# Altium schematic symbol library LimeMicroAltiumLib_schLib.SchLib: 199 symbols (part 8 of 8)
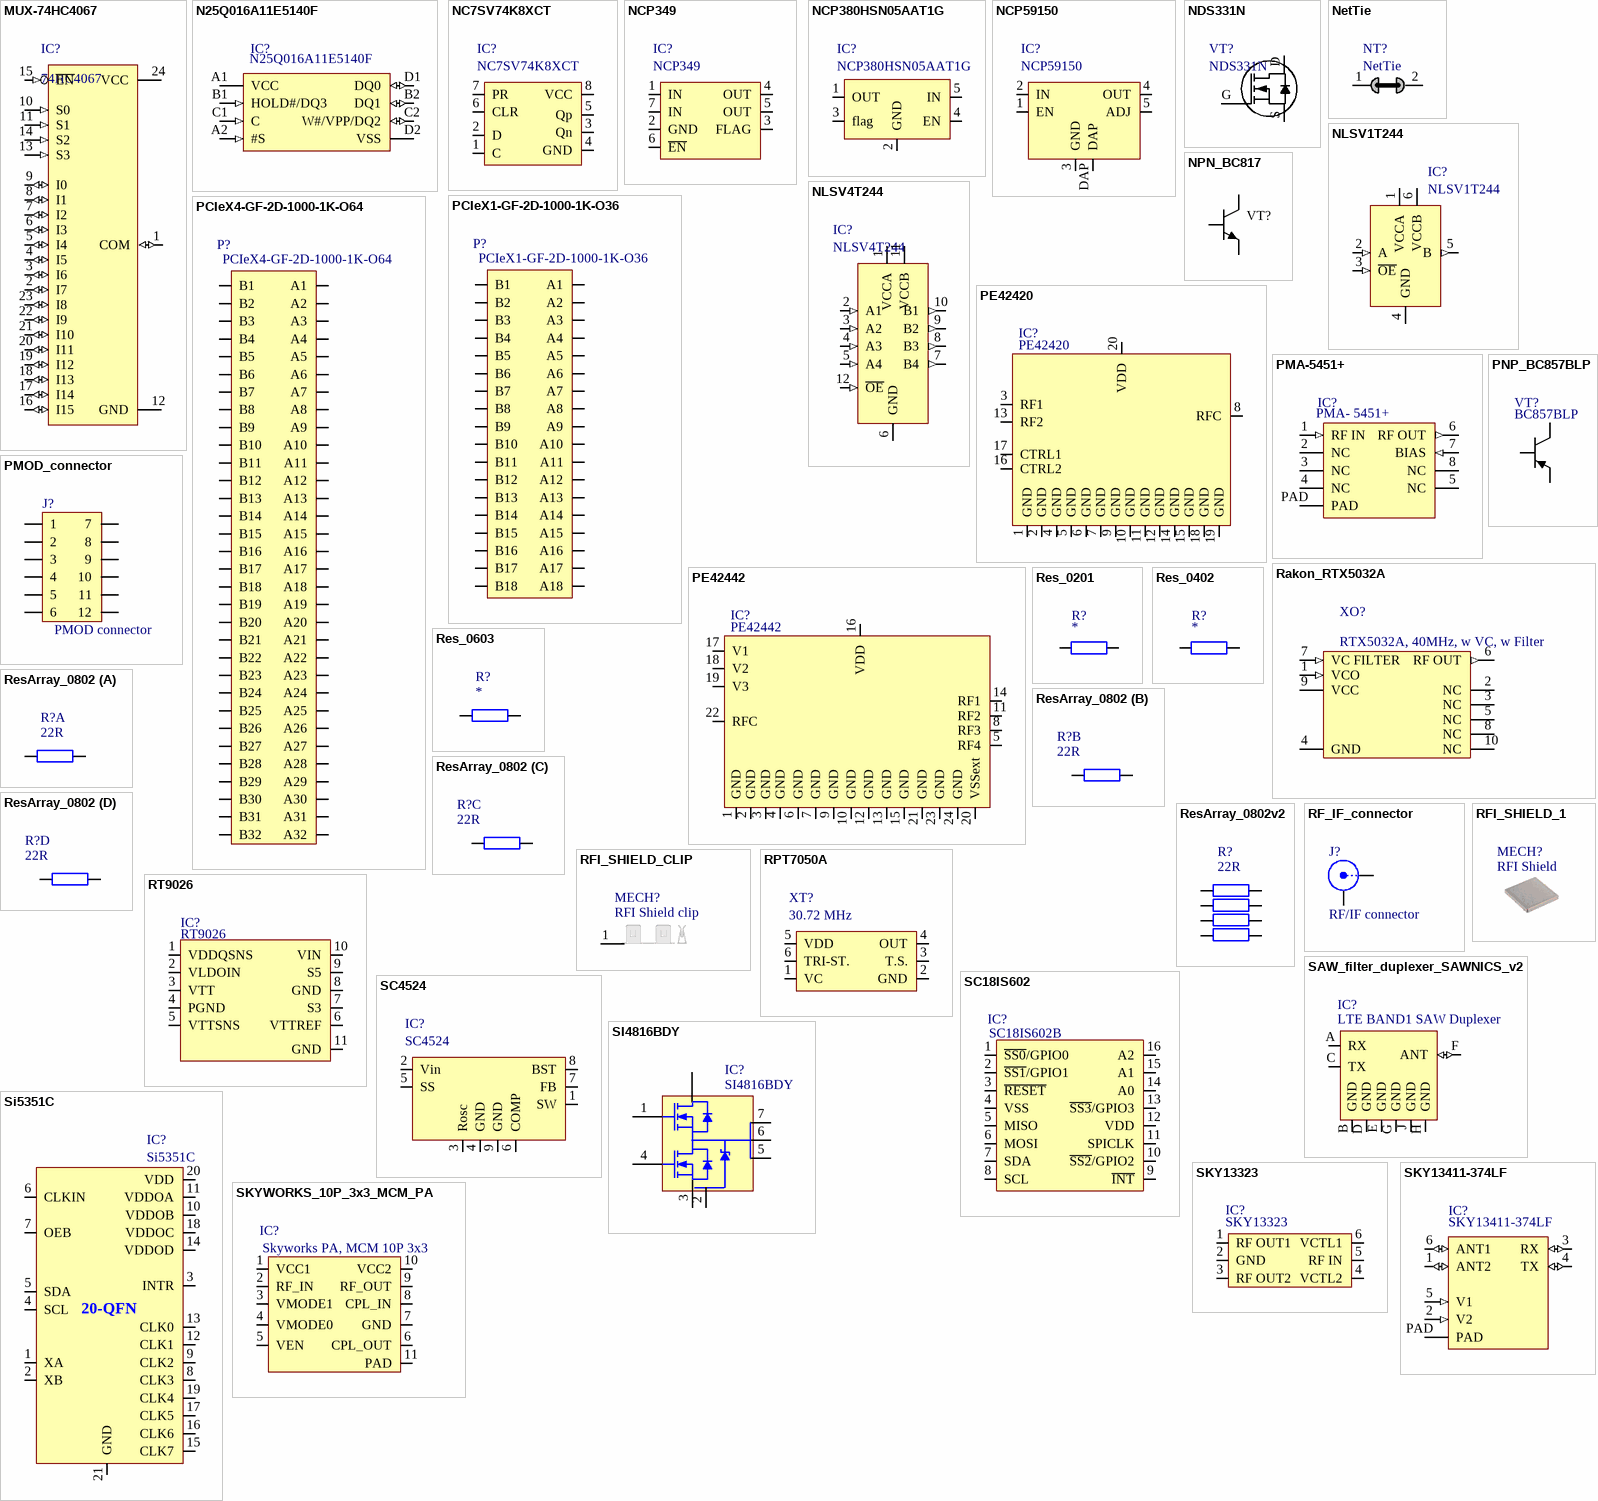
[diagram p41: symbols MUX-74HC4067 to SKYWORKS_10P_3x3_MCM_PA]

## SKYWORKS_10P_3x3_MCM_PA
designator IC?, comment Skyworks PA, MCM 10P 3x3
footprint SKYWORKS_10PIN_MCM_3x3
pins: 1 VCC1 (power), 2 RF_IN (in), 3 VMODE1 (in), 4 VMODE0 (in), 5 VEN (in), 6 CPL_OUT (out), 7 GND, 8 CPL_IN (in), 9 RF_OUT (out), 10 VCC2 (power), 11 PAD

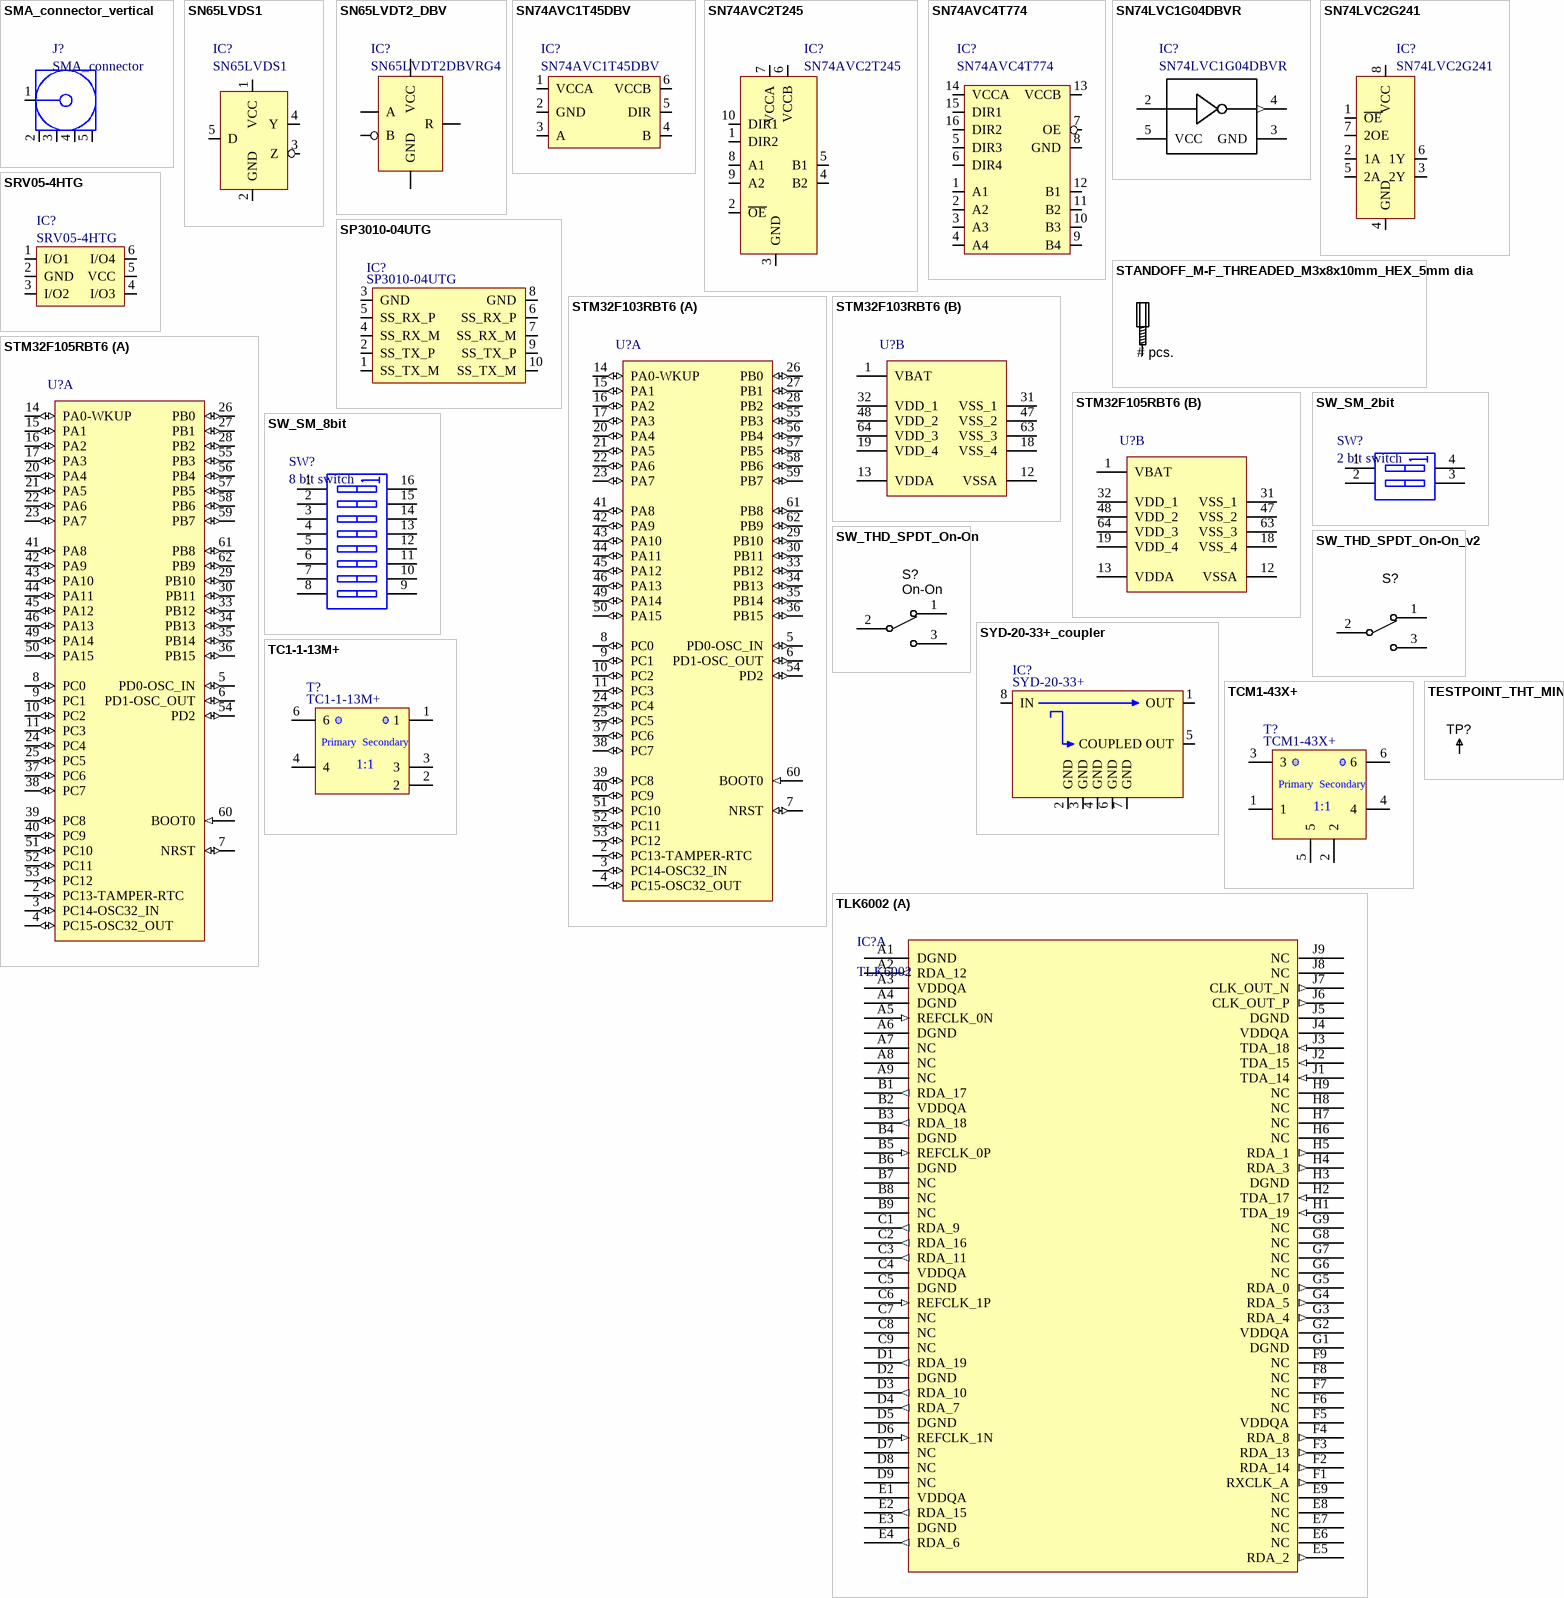
[diagram p32: symbols SMA_connector_vertical to TLK6002]

## SMA_connector_vertical
designator J?, comment SMA_connector
Supplier 1: Farnell; Supplier Part Number 1: 1206013
footprint SMA_connector_vertical
pins: 1 RF, 2 GND, 3 GND, 4 GND, 5 GND

## SN65LVDS1
designator IC?
Manufacturer: TEXAS INSTRUMENTS; Manufacturer Part Number 1: SN65LVDS1DBVR; Supply Voltage Min: 2.4; Supply Voltage Max: 3.6; No. of Pins: 5; Driver Case Style: SOT-23; Supplier 1: Newark; Supplier Part Number 1: 76C0715
footprint SOT23-5
pins: 1 VCC, 2 GND, 3 Z, 4 Y, 5 D

## SN65LVDT2_DBV
designator IC?, comment SN65LVDT2DBVRG4
Manufacturer: Texas Instruments; Voltage - Supply: 2.4 V ~ 3.6 V; Number of Drivers/Receivers: 0/1; Data Rate: 400Mbps; Protocol: LVDS; Supplier 1: Digi-Key; Category: Integrated Circuits (ICs); Type: Receiver; Manufacturer Part Number 1: SN65LVDT2DBVRG4; Packaging: Tape & Reel (TR); RoHS: RoHS Compliant; Supplier Device Package: SOT-23-5; Package / Case: SC-74A, SOT-753; Mounting Type: Surface Mount; Operating Temperature: -40°C ~ 85°C; Receiver Hysteresis: -; Duplex: -; Supplier Part Number 1: SN65LVDT2DBVRG4-ND
footprint SOT23-5
pins: 1 VCC, 2 GND, 3 A, 4 B, 5 R

## SN74AVC1T45DBV
designator IC?
Manufacturer: Texas Instruments; Data Rate: 500Mbps; Voltage - Supply: 1.2 V ~ 3.6 V; Supplier 1: Digi-Key; Category: Integrated Circuits (ICs); Package / Case: SOT-23-6; Supplier Part Number: 296-19094-1-ND
footprint SOT23-6
pins: 1 VCCA (power), 2 GND, 3 A (io), 4 B (io), 5 DIR (in), 6 VCCB (power)

## SN74AVC2T245
designator IC?
Input Type: Logic; Logic Function: Translator, Bidirectional, 3-State; Data Rate: 500Mbps; Propagation Delay (Max): 2.4ns; Voltage - Supply: 1.2 V ~ 3.6 V; Supplier 1: Digi-Key; Category: Integrated Circuits (ICs); Supplier Device Package: 10-UQFN (1.8x1.4); Package / Case: 10-UFQFN; Supplier Part Number: 296-23684-1-ND
footprint SN74AVC2T245RSWR (PQFN, 10-Leads, Body 1,80x1,40mm, Pitch 0,40mm, IPC Medium Density)
pins: 1 DIR2, 2 ~{OE}, 3 GND, 4 B2, 5 B1, 6 VCCB, 7 VCCA, 8 A1, 9 A2, 10 DIR1

## SN74AVC4T774
designator IC?
Manufacturer: Texas Instruments; Manufacturer Part Number 1: SN74AVC4T774RSVR; Logic Function: Translator, Bidirectional, 3-State; Differential - Input:Output: No/No; Propagation Delay (Max): 2.4ns; Number of Bits: 4; Number of Outputs/Channel: 1; Input Type: Logic; Voltage - Supply: 1.2 V ~ 3.6 V; Data Rate: 380Mbps; Supplier 1: Digi-Key; Supplier Device Package: 16-UQFN (2.6x1.8); Packaging: Digi-Reel®; Category: Integrated Circuits (ICs); Mounting Type: Surface Mount; RoHS: RoHS Compliant; Number of Channels: 4; Output Type: Logic; Package / Case: 16-UFQFN; Operating Temperature: -40°C ~ 85°C; Supplier Part Number 1: 296-24741-6-ND
footprint SN74AVC4T774 (PQFN, 16-Leads, Body 2,60x1,80mm, Pitch 0,40mm, IPC Medium Density)
pins: 1 A1, 2 A2, 3 A3, 4 A4, 5 DIR3, 6 DIR4, 7 OE, 8 GND, 9 B4, 10 B3, 11 B2, 12 B1, 13 VCCB, 14 VCCA, 15 DIR1, 16 DIR2

## SN74LVC1G04DBVR
designator IC?
Manufacturer: Texas Instruments; Number of Inputs: 1; Voltage - Supply: 1.65 V ~ 5.5 V; Current - Quiescent (Max): 10µA; Current - Output High, Low: 32mA, 32mA; Max Propagation Delay @ V, Max CL: 3.7ns @ 5V, 50pF; Logic Level - High: 1.7 V ~ 2 V; Logic Level - Low: 0.7 V ~ 0.8 V; Logic Type: Inverter; Supplier 1: Digi-Key; RoHS: RoHS Compliant; Number of Circuits: 1; Mounting Type: Surface Mount; Supplier Device Package: SOT-23-5; Manufacturer Part Number 1: SN74LVC1G04DBVR; Operating Temperature: -40°C ~ 125°C; Packaging: Digi-Reel®; Features: -; Package / Case: SC-74A, SOT-753; Category: Integrated Circuits (ICs); Supplier Part Number 1: 296-11599-6-ND
footprint SOT23-5
pins: 2 A, 3 GND (power), 4 Y (out), 5 VCC (power)

## SN74LVC2G241
designator IC?
Logic Type: Buffer/Line Driver, Non-Inverting; Current - Output High, Low: 32mA, 32mA; Voltage - Supply: 1.65 V ~ 5.5 V; Supplier 1: Digi-Key; Package / Case: 8-LSSOP (0.11", 2.80mm Width); Category: Integrated Circuits (ICs); Mounting Type: Surface Mount; Supplier Part Number: 296-11935-1-ND
footprint SN74LVC2G241 (TSOP, 8-Leads, Body 2,95x2,80mm, Pitch 0,65mm, IPC Medium Density)
pins: 1 ~{OE}, 2 1A, 3 2Y, 4 GND, 5 2A, 6 1Y, 7 2OE, 8 VCC

## SP3010-04UTG
designator IC?
Manufacturer: Littelfuse Inc; Supplier 1: Digi-Key; Supplier: Digi-Key; Category: Circuit Protection; Supplier Device Package: 10-µDFN (2.5x1.0); Supplier Part Number: F3507TR-ND
pins: 1 SS_TX_M, 2 SS_TX_P, 3 GND, 4 SS_RX_M, 5 SS_RX_P, 6 SS_RX_P, 7 SS_RX_M, 8 GND, 9 SS_TX_P, 10 SS_TX_M

## SRV05-4HTG
designator IC?
Manufacturer: Littelfuse Inc; Voltage - Reverse Standoff (Typ): 6V (Max); Voltage - Clamping (Max) @ Ipp: 15V; Current - Peak Pulse (10/1000µs): 10A (8/20µs); Supplier 1: Digi-Key; Category: Circuit Protection; Package / Case: SOT-23-6; Supplier Part Number 1: F4204TR-ND
footprint SOT23-6
pins: 1 I/O1, 2 GND, 3 I/O2, 4 I/O3, 5 VCC, 6 I/O4

## STANDOFF_M-F_THREADED_M3x8x10mm_HEX_5mm dia
designator MECH?, comment # pcs.
STANDOFF M/F MET 5MM HEX 10MM L; Manufacturer 1: Keystone Electronics; Manufacturer Part Number 1: 24313; Thread/Screw/Hole Size: M3 Thread; Plating: Nickel; Between Board Height: 0.394" (10.0mm); SCDType: undef; RoHS: RoHS Compliant; Description 1: STANDOFF M/F MET 5MM HEX 10MM L; Category: Hardware Fasteners Accessories; Stock 1: 240; Pricing 1: 10=0.969, 100=0.881, 500=0.58, 1000=0.3685, 2500=0.34215 (USD); Type: Hex Threaded, Male/Female; Size: 0.197" (5.0mm) Hex; Length - Overall: 0.709" (18.0mm); Material: Brass; Color: Natural; ComponentLink1URL: http://www.keyelco.com/pdfs/M55p67.pdf; ComponentLink1Description: http://www.keyelco.com/pdfs/M55p67.pdf; Supplier 1: Digi-Key; Supplier Part Number 1: 24313K-ND
footprint PCB_standoff
pins: MH1

## STM32F103RBT6
designator U?
ARM Cortex-M3 32-bit MCU, 128 KB Flash, 20 KB Internal RAM, 51 I/Os, 64-pin LQFP, -40 to 85 degC, Tray; PartNumber: STM32F103RBT6; A/D Converter: 2x12-bit (16 Channel); FLASH Size (Prog) (kB): 128; I/Os (High Current): 51; Internal RAM Size (kB): 20; Operating Frequency(F) (Processor speed) (MHz): 72; Supply Voltage(Vcc) min (V): 2; DatasheetVersion: Rev. 16; PackageVersion: Rev. 4, 06/2013; PackageReference: LQFP64; PackageDescription: 64-Pin Low Profile Quad Flat Package, 10 x 10 mm Body, 0.5 mm Pitch; Supplier 1: Digi-Key; Supplier Part Number 1: 497-6066-ND; Supplier 2: Farnell; Supplier Part Number 2: 1447640; Supplier 3: Newark; Supplier Part Number 3: 59M2183; Supplier 4: Newark; Supplier Part Number 4: 57P1224; Supplier 5: Mouser; Supplier Part Number 5: 511-STM32F103RBT6; Core: ARM Cortex-M3; Packing: Tray; Mounting Technology: Surface Mount; ComponentLink1Description: Manufacturer URL; ComponentLink1URL: http://www.st.com/web/en/home.html; ComponentLink2Description: Datasheet; ComponentLink2URL: http://www.st.com/st-web-ui/static/active/en/resource/technical/document/datasheet/CD00161566.pdf; ComponentLink3Description: Package Specification; ComponentLink3URL: http://www.st.com/st-web-ui/static/active/en/resource/technical/document/datasheet/DM00037051.pdf
footprint STM-LQFP64_N (Thin QFP, 64-Leads, Body 10x10mm, Pitch 0.5mm, IPC Medium Density)
part A pins: 2 PC13-TAMPER-RTC (io) "PC13-TAMPER-RTC/PC13/TAMPER-RTC", 3 PC14-OSC32_IN (io) "PC14-OSC32_IN/PC14/OSC32_IN", 4 PC15-OSC32_OUT (io) "PC15-OSC32_OUT/PC15/OSC32_OUT", 5 PD0-OSC_IN (io) "PD0/OSC_IN", 6 PD1-OSC_OUT (io) "PD1/OSC_OUT", 7 NRST (io), 8 PC0 (io) "PC0/ADC12_IN10", 9 PC1 (io) "PC1/ADC12_IN11", 10 PC2 (io) "PC2/ADC12_IN12", 11 PC3 (io) "PC3/ADC12_IN13", 14 PA0-WKUP (io) "PA0-WKUP/PA0/WKUP/USART2_CTS/ADC12_IN0/TIM2_CH1_ETR", 15 PA1 (io) "PA1/USART2_RTS/ADC12_IN1/TIM2_CH2", 16 PA2 (io) "PA2/USART2_TX/ADC12_IN2/TIM2_CH3", 17 PA3 (io) "PA3/USART2_RX/ADC12_IN3/TIM2_CH4", 20 PA4 (io) "PA4/SPI1_NSS/USART2_CK/ADC12_IN4", 21 PA5 (io) "PA5/SPI1_SCK/ADC12_IN5", 22 PA6 (io) "PA6/SPI1_MISO/ADC12_IN6/TIM3_CH1/TIM1_BKIN", 23 PA7 (io) "PA7/SPI1_MOSI/ADC12_IN7/TIM3_CH2/TIM1_CH1N", 24 PC4 (io) "PC4/ADC12_IN14", 25 PC5 (io) "PC5/ADC12_IN15", 26 PB0 (io) "PB0/ADC12_IN8/TIM3_CH3/TIM1_CH2N", 27 PB1 (io) "PB1/ADC12_IN9/TIM3_CH4/TIM1_CH3N", 28 PB2 (io) "PB2/BOOT1", 29 PB10 (io) "PB10/I2C2_SCL/USART3_TX/TIM2_CH3", 30 PB11 (io) "PB11/I2C2_SDA/USART3_RX/TIM2_CH4", 33 PB12 (io) "PB12/SPI2_NSS/I2C2_SMBAl/USART3_CK/TIM1_BKIN", 34 PB13 (io) "PB13/SPI2_SCK/USART3_CTS/TIM1_CH1N", 35 PB14 (io) "PB14/SPI2_MISO/USART3_RTS/TIM1_CH2N", 36 PB15 (io) "PB15/SPI2_MOSI/TIM1_CH3N", 37 PC6 (io) "PC6/TIM3_CH1", 38 PC7 (io) "PC7/TIM3_CH2", 39 PC8 (io) "PC8/TIM3_CH3", 40 PC9 (io) "PC9/TIM3_CH4", 41 PA8 (io) "PA8/USART1_CK/TIM1_CH1/MCO", 42 PA9 (io) "PA9/USART1_TX/TIM1_CH2", 43 PA10 (io) "PA10/USART1_RX/TIM1_CH3", 44 PA11 (io) "PA11/USART1_CTS/CANRX/USBDM/TIM1_CH4", 45 PA12 (io) "PA12/USART1_RTS/CANTX/USBDP/TIM1_ETR", 46 PA13 (io) "PA13/JTMS/SWDIO", 49 PA14 (io) "PA14/JTCK/SWCLK", 50 PA15 (io) "PA15/JTDI/TIM2_CH1_ETR/SPI1_NSS", 51 PC10 (io) "PC10/USART3_TX", 52 PC11 (io) "PC11/USART3_RX", 53 PC12 (io) "PC12/USART3_CK", 54 PD2 (io) "PD2/TIM3_ETR", 55 PB3 (io) "PB3/JTDO/TIM2_CH2/TRACESWO/SPI1_SCK", 56 PB4 (io) "PB4/NJTRST/TIM3_CH1/SPI1_MISO", 57 PB5 (io) "PB5/I2C1_SMBAI/TIM3_CH2/SPI1_MOSI", 58 PB6 (io) "PB6/I2C1_SCL/TIM4_CH1/USART1_TX", 59 PB7 (io) "PB7/I2C1_SDA/TIM4_CH2/USART1_RX", 60 BOOT0 (in), 61 PB8 (io) "PB8/TIM4_CH3/I2C1_SCL/CANRX", 62 PB9 (io) "PB9/TIM4_CH4/I2C1_SDA/CANTX"
part B pins: 1 VBAT (power), 12 VSSA (power), 13 VDDA (power), 18 VSS_4 (power), 19 VDD_4 (power), 31 VSS_1 (power), 32 VDD_1 (power), 47 VSS_2 (power), 48 VDD_2 (power), 63 VSS_3 (power), 64 VDD_3 (power)

## STM32F105RBT6
designator U?
ARM Cortex-M3 32-bit MCU, 128 KB Flash, 64 KB Internal RAM, 51 I/Os, 64-pin LQFP, -40 to 85 degC, Tray; PartNumber: STM32F105RBT6; A/D Converter: 2x12-bit (16 Channel); D/A Converter: 2x12-bit (2 Channel); FLASH Size (Prog) (kB): 128; I/Os (High Current): 51; Internal RAM Size (kB): 64; Operating Frequency(F) (Processor speed) (MHz): 72; Supply Voltage(Vcc) min (V): 2; DatasheetVersion: Rev. 6; PackageVersion: Rev. 4, 06/2013; PackageReference: LQFP64; PackageDescription: 64-Pin Low Profile Quad Flat Package, 10 x 10 mm Body, 0.5 mm Pitch; Supplier 1: Digi-Key; Supplier Part Number 1: 497-8920-ND; Supplier 2: Farnell; Supplier Part Number 2: 1737133; Supplier 3: Newark; Supplier Part Number 3: 52R2326; Supplier 4: Newark; Supplier Part Number 4: 25R9437; Supplier 5: Mouser; Supplier Part Number 5: 511-STM32F105RBT6; Core: ARM Cortex-M3; Packing: Tray; Mounting Technology: Surface Mount; ComponentLink1Description: Manufacturer URL; ComponentLink1URL: http://www.st.com/web/en/home.html; ComponentLink2Description: Datasheet; ComponentLink2URL: http://www.st.com/st-web-ui/static/active/en/resource/technical/document/datasheet/CD00220364.pdf; ComponentLink3Description: Package Specification; ComponentLink3URL: http://www.st.com/st-web-ui/static/active/en/resource/technical/document/datasheet/DM00037051.pdf
footprint STM-LQFP64_N (Thin QFP, 64-Leads, Body 10x10mm, Pitch 0.5mm, IPC Medium Density)
part A pins: 2 PC13-TAMPER-RTC (io) "PC13-TAMPER-RTC/PC13/TAMPER-RTC", 3 PC14-OSC32_IN (io) "PC14-OSC32_IN/PC14/OSC32_IN", 4 PC15-OSC32_OUT (io) "PC15-OSC32_OUT/PC15/OSC32_OUT", 5 PD0-OSC_IN (io) "PD0/OSC_IN", 6 PD1-OSC_OUT (io) "PD1/OSC_OUT", 7 NRST (io), 8 PC0 (io) "PC0/ADC12_IN10", 9 PC1 (io) "PC1/ADC12_IN11/ETH_MII_MDC/ETH_RMII_MDC", 10 PC2 (io) "PC2/ADC12_IN12/ETH_MII_TXD2", 11 PC3 (io) "PC3/ADC12_IN13/ETH_MII_TX_CLK", 14 PA0-WKUP (io) "PA0-WKUP/PA0/WKUP/USART2_CTS/ADC12_IN0/TIM2_CH1_ETR/TIM5_CH1/ETH_MII_CRS_WKUP", 15 PA1 (io) "PA1/USART2_RTS/ADC12_IN1/TIM5_CH2/TIM2_CH2/ETH_MII_RX_CLK/ETH_RMII_REF_CLK", 16 PA2 (io) "PA2/USART2_TX/TIM5_CH3/ADC12_IN2/TIM2_CH3/ETH_MII_MDIO/ETH_RMII_MDIO", 17 PA3 (io) "PA3/USART2_RX/TIM5_CH4/ADC12_IN3/TIM2_CH4/ETH_MII_COL", 20 PA4 (io) "PA4/SPI1_NSS/DAC_OUT1/USART2_CK/ADC12_IN4/SPI3_NSS/I2S3_WS", 21 PA5 (io) "PA5/SPI1_SCK/DAC_OUT2/ADC12_IN5", 22 PA6 (io) "PA6/SPI1_MISO/ADC12_IN6/TIM3_CH1/TIM1_BKIN", 23 PA7 (io) "PA7/SPI1_MOSI/ADC12_IN7/TIM3_CH2/ETH_MII_RX_DV/ETH_RMII_CRS_DV/TIM1_CH1N", 24 PC4 (io) "PC4/ADC12_IN14/ETH_MII_RXD0/ETH_RMII_RXD0", 25 PC5 (io) "PC5/ADC12_IN15/ETH_MII_RXD1/ETH_RMII_RXD1", 26 PB0 (io) "PB0/ADC12_IN8/TIM3_CH3/ETH_MII_RXD2/TIM1_CH2N", 27 PB1 (io) "PB1/ADC12_IN9/TIM3_CH4/ETH_MII_RXD3/TIM1_CH3N", 28 PB2 (io) "PB2/BOOT1", 29 PB10 (io) "PB10/I2C2_SCL/USART3_TX/ETH_MII_RX_ER/TIM2_CH3", 30 PB11 (io) "PB11/I2C2_SDA/USART3_RX/ETH_MII_TX_EN/ETH_RMII_TX_EN/TIM2_CH4", 33 PB12 (io) "PB12/SPI2_NSS/I2S2_WS/I2C2_SMBA/USART3_CK/TIM1_BKIN/CAN2_RX/ETH_MII_TXD0/ETH_RMII_TXD0", 34 PB13 (io) "PB13/SPI2_SCK/I2S2_CK/USART3_CTS/TIM1_CH1N/CAN2_TX/ETH_MII_TXD1/ETH_RMII_TXD1", 35 PB14 (io) "PB14/SPI2_MISO/TIM1_CH2N/USART3_RTS", 36 PB15 (io) "PB15/SPI2_MOSI/I2S2_SD/TIM1_CH3N", 37 PC6 (io) "PC6/I2S2_MCK/TIM3_CH1", 38 PC7 (io) "PC7/I2S3_MCK/TIM3_CH2", 39 PC8 (io) "PC8/TIM3_CH3", 40 PC9 (io) "PC9/TIM3_CH4", 41 PA8 (io) "PA8/USART1_CK/OTG_FS_SOF/TIM1_CH1/MCO", 42 PA9 (io) "PA9/USART1_TX/TIM1_CH2/OTG_FS_VBUS", 43 PA10 (io) "PA10/USART1_RX/TIM1_CH3/OTG_FS_ID", 44 PA11 (io) "PA11/USART1_CTS/CAN1_RX/TIM1_CH4/OTG_FS_DM", 45 PA12 (io) "PA12/USART1_RTS/OTG_FS_DP/CAN1_TX/TIM1_ETR", 46 PA13 (io) "PA13/JTMS-SWDIO", 49 PA14 (io) "PA14/JTCK-SWCLK", 50 PA15 (io) "PA15/JTDI/SPI3_NSS/I2S3_WS/TIM2_CH1_ETR/SPI1_NSS", 51 PC10 (io) "PC10/UART4_TX/USART3_TX/SPI3_SCK/I2S3_CK", 52 PC11 (io) "PC11/UART4_RX/USART3_RX/SPI3_MISO", 53 PC12 (io) "PC12/UART5_TX/USART3_CK/SPI3_MOSI/I2S3_SD", 54 PD2 (io) "PD2/TIM3_ETR/UART5_RX", 55 PB3 (io) "PB3/JTDO/SPI3_SCK/I2S3_CK/TRACESWO/TIM2_CH2/SPI1_SCK", 56 PB4 (io) "PB4/NJTRST/SPI3_MISO/TIM3_CH1/SPI1_MISO", 57 PB5 (io) "PB5/I2C1_SMBA/SPI3_MOSI/ETH_MII_PPS_OUT/I2S3_SD/ETH_RMII_PPS_OUT/TIM3_CH2/SPI1_MOSI/CAN2_RX", 58 PB6 (io) "PB6/I2C1_SCL/TIM4_CH1/USART1_TX/CAN2_TX", 59 PB7 (io) "PB7/I2C1_SDA/TIM4_CH2/USART1_RX", 60 BOOT0 (in), 61 PB8 (io) "PB8/TIM4_CH3/ETH_MII_TXD3/I2C1_SCL/CAN1_RX", 62 PB9 (io) "PB9/TIM4_CH4/I2C1_SDA/CAN1_TX"
part B pins: 1 VBAT (power), 12 VSSA (power), 13 VDDA (power), 18 VSS_4 (power), 19 VDD_4 (power), 31 VSS_1 (power), 32 VDD_1 (power), 47 VSS_2 (power), 48 VDD_2 (power), 63 VSS_3 (power), 64 VDD_3 (power)

## SW_SM_2bit
designator SW?, comment 2 bit switch
Manufacturer: TE Connectivity Alcoswitch Switches; Manufacturer Part Number 1: 1571983-1; Circuit: SPST; Voltage Rating: 24VDC; Mechanical Life: 1,000 Cycles; Current Rating: 25mA; Actuator Level: Flush, Recessed; Pitch: 0.050" (1.27mm), Half; Actuator Type: Slide (Standard); Body Material: Polyphenylene Sulfide (PPS); Number of Positions: 2; Washable: Yes; Supplier 1: Digi-Key; Features: Tape Seal; Termination Style: Gull Wing; Category: Switches; Electrical Life: 1,000 Cycles; Length: 0.144" (3.67mm); Contact Finish: Gold; Packaging: Tube; Operating Temperature: -30°C ~ 85°C; RoHS: RoHS Compliant; Contact Material: Copper Alloy; Height Above Board: 0.091" (2.30mm); Mounting Type: Surface Mount; Supplier Part Number 1: 450-1431-ND
footprint SW_2WAY_SMD_1P27 (DIP Switch; 16 Leads, 1.27 pitch)
pins: 1 A1, 2 A2, 3 B2, 4 B1

## SW_SM_8bit
designator SW?, comment 8 bit switch
Manufacturer: Omron Electronics Inc-EMC Div; Manufacturer Part Number: A6H-8101; Actuator Level: Flush; Actuator Type: Standard; Circuit: SPST; Contact Rating @ Voltage: 0.025A @ 24VDC; Number of Positions: 8; Supplier 1: Digi-Key; Mounting Type: Surface Mount; Category: Switches; Supplier Part Number 1: SW1118-ND
footprint SW_8WAY_SMD (DIP Switch; 16 Leads)
pins: 1 A1, 2 A2, 3 A3, 4 A4, 5 A5, 6 A6, 7 A7, 8 A8, 9 B8, 10 B7, 11 B6, 12 B5, 13 B4, 14 B3, 15 B2, 16 B1

## SW_THD_SPDT_On-On
designator S?, comment ON-ON
Switch THD vertical toggle SPDT; Manufacturer 1: TE Connectivity; Manufacturer Part Number 1: SLS121PC04; Contact Rating @ Voltage: 0.25A @ 125VAC; Circuit: SPDT; Mounting Type: PCB mount; Supplier 1: Digi-Key; Supplier Part Number 1: 450-1598-ND; Switch Function: On-On
footprint SWITCH_SPDT_SLIDER (TE Connectivity SLS121PC04 SPDT slider)
footprint SWITCH_SPDT_SLIDER (TE Connectivity SLS121PC04 SPDT slider)
pins: 1, 2, 3

## SW_THD_SPDT_On-On_v2
designator S?, comment ON-ON  (value not drawn)
Switch THD vertical toggle SPDT; Manufacturer Part Number: 1101M2S3CQE2; Manufacturer: C&K Components; Voltage Rating - AC: 120V; Actuator Length: 5.08mm; Current Rating: 6A (AC/DC); Electrical Life: 40,000 Cycles; Switch Travel: 2.16mm; Voltage Rating - DC: 28V; Supplier 1: Digi-Key; Termination Style: PC Pin; Operating Temperature: -30°C ~ 65°C; Category: Switches; Switch Function: On-On; Supplier Part Number 1: CKN5001-ND
footprint SWITCH_SPDT_SLIDER - duplicate (TE Connectivity SLS121PC04 SPDT slider)
pins: 1, 2, 3

## SYD-20-33+_coupler
designator IC?, comment SYD-20-33+
Directional RF coupler 30 to 3000 MHz
footprint SYD-20-33+
pins: 1 OUT (out), 2 GND, 3 GND, 4 GND, 5 COUPLED OUT (out), 6 GND, 7 GND, 8 IN (in)

## TC1-1-13M+
designator T?
Part Description: RF balun; 1:1 ratio; 3 dB bandwidth: 0.1 MHz to 3.5 GHz; 3.8mm x 3.8mm; Supplier 1: Minicircuits; Manufacturer Part Number 1: TC1-1-13M+; Supplier Part Number: TC1-1-13M+
footprint TC1-1-13MA+_v2 (Balun)
pins: 1, 2, 3, 4, 6
text: Primary; Secondary; 1:1

## TCM1-43X+
designator T?
Also compatible with JA4220-AL_; Part Description: RF balun; 1:1 ratio; 3 dB bandwidth: 10 MHz to 4 GHz; 3.8mm x 3.8mm; Supplier 1: Coilcraft; Manufacturer Part Number 1: TCM1-43X+; Supplier Part Number: TCM1-43X+
footprint TCM1-43X+ (Balun)
pins: 1, 2, 3, 4, 5, 6
text: Primary; Secondary; 1:1

## TESTPOINT_THT_MINI
designator TP?  (value not drawn)
Test Point PCB mount Miniature White; Manufacturer 1: Keystone Electronics; Manufacturer Part Number 1: 5002; Mounting Type: 0.040" (1.0mm) Hole Diameter; Material: Base, Nylon 46, UL 94V-0; Supplier 1: Digi-Key; Supplier Part Number 1: 5002K-ND
footprint TP-THT-MINI (Thru-hole test point loop)
pins: 1

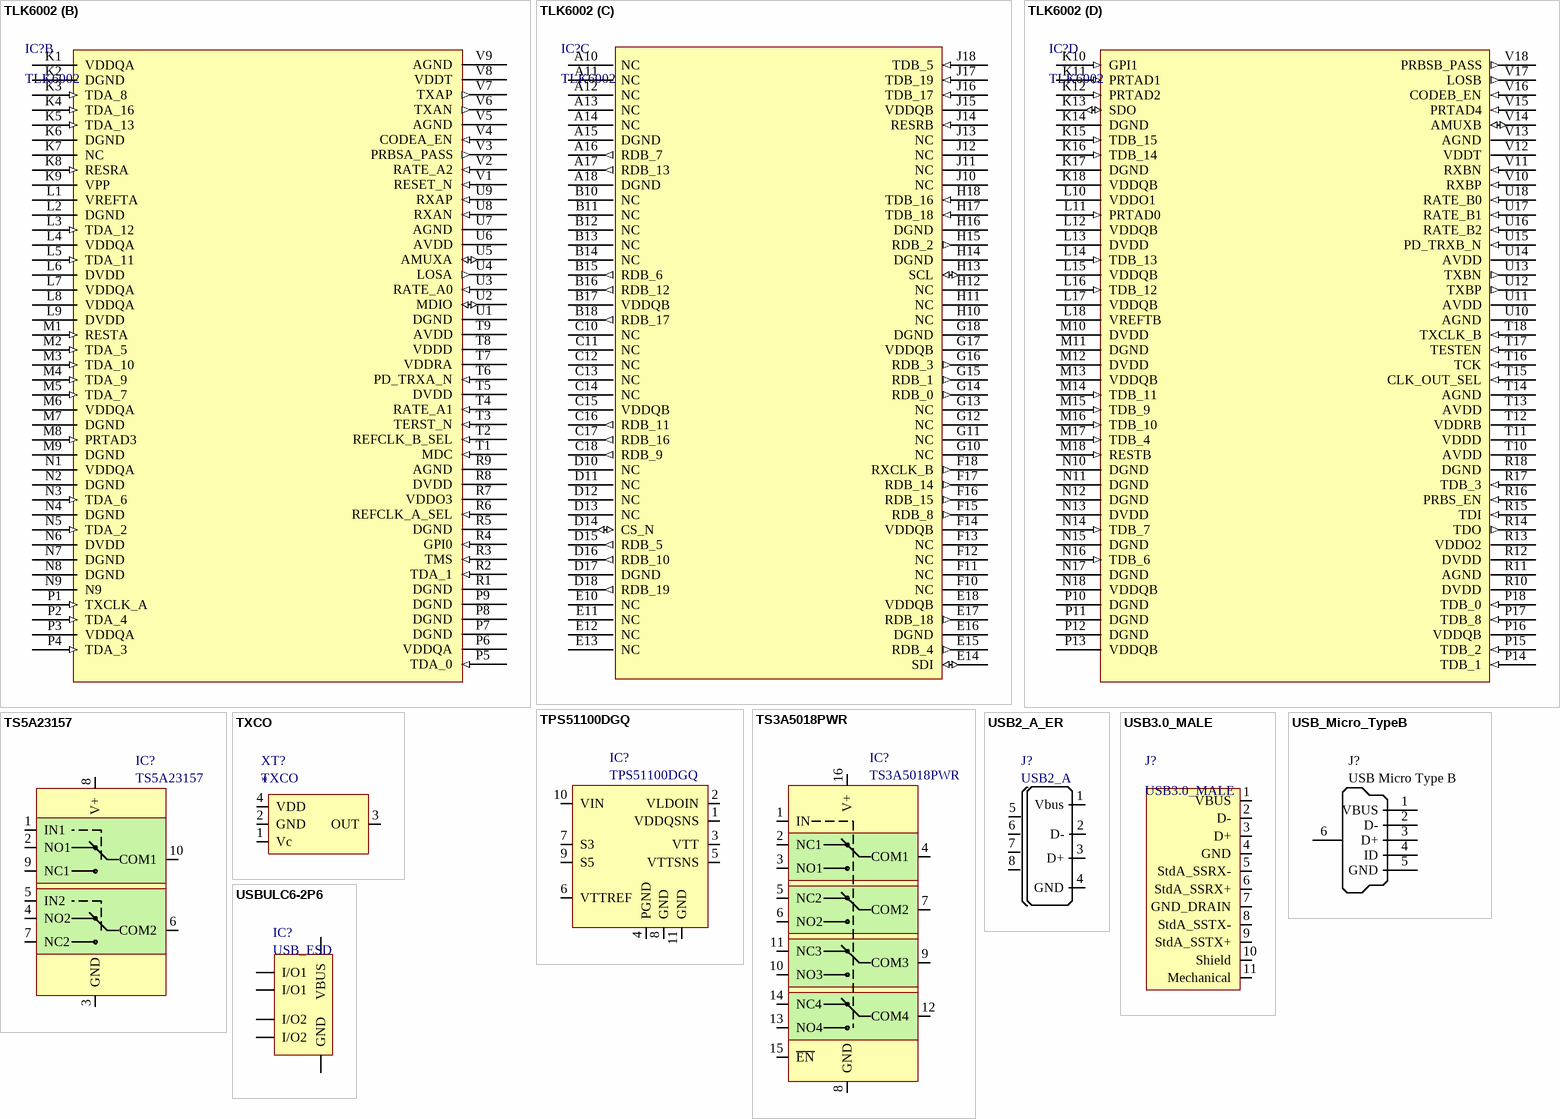
[diagram p33: symbols TLK6002 to USBULC6-2P6]

## TLK6002
designator IC?
Manufacturer: Texas Instruments; Manufacturer Part Number: TLK6002ZEU; Voltage - Supply: 1.5 V, 1.8 V; Number of Drivers/Receivers: 2/2; Duplex: Full; Protocol: Gigabit Ethernet; Supplier 1: Digi-Key; Type: Transceiver; Packaging: Tray; RoHS: RoHS Compliant; Category: Integrated Circuits (ICs); Operating Temperature: -40°C ~ 85°C; Mounting Type: Surface Mount; Package / Case: 324-BGA; Supplier Device Package: 324-BGA; Data Rate: -; Receiver Hysteresis: -; Supplier Part Number 1: 296-27459-5-ND
footprint TLK6002
part A pins: A1 DGND (power), A2 RDA_12 (out), A3 VDDQA (power), A4 DGND (power), A5 REFCLK_0N (in), A6 DGND (power), A7 NC, A8 NC, A9 NC, B1 RDA_17 (out), B2 VDDQA (power), B3 RDA_18 (out), B4 DGND (power), B5 REFCLK_0P (in), B6 DGND (power), B7 NC, B8 NC, B9 NC, C1 RDA_9 (out), C2 RDA_16 (out), C3 RDA_11 (out), C4 VDDQA (power), C5 DGND (power), C6 REFCLK_1P (in), C7 NC, C8 NC, C9 NC, D1 RDA_19 (out), D2 DGND (power), D3 RDA_10 (out), D4 RDA_7 (out), D5 DGND (power), D6 REFCLK_1N (in), D7 NC, D8 NC, D9 NC, E1 VDDQA (power), E2 RDA_15 (out), E3 DGND (power), E4 RDA_6 (out), E5 RDA_2 (out), E6 NC, E7 NC, E8 NC, E9 NC, F1 RXCLK_A (out), F2 RDA_14 (out), F3 RDA_13 (out), F4 RDA_8 (out), F5 VDDQA (power), F6 NC, F7 NC, F8 NC, F9 NC, G1 DGND (power), G2 VDDQA (power), G3 RDA_4 (out), G4 RDA_5 (out), G5 RDA_0 (out), G6 NC, G7 NC, G8 NC, G9 NC, H1 TDA_19 (in), H2 TDA_17 (in), H3 DGND (power), H4 RDA_3 (out), H5 RDA_1 (out), H6 NC, H7 NC, H8 NC, H9 NC, J1 TDA_14 (in), J2 TDA_15 (in), J3 TDA_18 (in), J4 VDDQA (power), J5 DGND (power), J6 CLK_OUT_P (out), J7 CLK_OUT_N (out), J8 NC, J9 NC
part B pins: K1 VDDQA (power), K2 DGND (power), K3 TDA_8 (in), K4 TDA_16 (in), K5 TDA_13 (in), K6 DGND (power), K7 NC, K8 RESRA (in), K9 VPP (power), L1 VREFTA (power), L2 DGND (power), L3 TDA_12 (in), L4 VDDQA (power), L5 TDA_11 (in), L6 DVDD (power), L7 VDDQA (power), L8 VDDQA (power), L9 DVDD (power), M1 RESTA (in), M2 TDA_5 (in), M3 TDA_10 (in), M4 TDA_9 (in), M5 TDA_7 (in), M6 VDDQA (power), M7 DGND (power), M8 PRTAD3 (in), M9 DGND (power), N1 VDDQA (power), N2 DGND (power), N3 TDA_6 (in), N4 DGND (power), N5 TDA_2 (in), N6 DVDD (power), N7 DGND (power), N8 DGND (power), N9, P1 TXCLK_A (in), P2 TDA_4 (in), P3 VDDQA (power), P4 TDA_3 (in), P5 TDA_0 (in), P6 VDDQA (power), P7 DGND (power), P8 DGND (power), P9 DGND (power), R1 DGND (power), R2 TDA_1 (in), R3 TMS (in), R4 GPI0 (in), R5 DGND (power), R6 REFCLK_A_SEL (in), R7 VDDO3 (power), R8 DVDD (power), R9 AGND (power), T1 MDC (in), T2 REFCLK_B_SEL (in), T3 TERST_N (in), T4 RATE_A1 (in), T5 DVDD (power), T6 PD_TRXA_N (in), T7 VDDRA (power), T8 VDDD (power), T9 AVDD (power), U1 DGND (power), U2 MDIO (io), U3 RATE_A0 (in), U4 LOSA (out), U5 AMUXA (io), U6 AVDD (power), U7 AGND (power), U8 RXAN (in), U9 RXAP (in), V1 RESET_N (in), V2 RATE_A2 (in), V3 PRBSA_PASS (out), V4 CODEA_EN (in), V5 AGND (power), V6 TXAN (out), V7 TXAP (out), V8 VDDT (power), V9 AGND (power)
part C pins: A10 NC, A11 NC, A12 NC, A13 NC, A14 NC, A15 DGND (power), A16 RDB_7 (out), A17 RDB_13 (out), A18 DGND (power), B10 NC, B11 NC, B12 NC, B13 NC, B14 NC, B15 RDB_6 (out), B16 RDB_12 (out), B17 VDDQB (power), B18 RDB_17 (out), C10 NC, C11 NC, C12 NC, C13 NC, C14 NC, C15 VDDQB (power), C16 RDB_11 (out), C17 RDB_16 (out), C18 RDB_9 (out), D10 NC, D11 NC, D12 NC, D13 NC, D14 CS_N (io), D15 RDB_5 (out), D16 RDB_10 (out), D17 DGND (power), D18 RDB_19 (out), E10 NC, E11 NC, E12 NC, E13 NC, E14 SDI (io), E15 RDB_4 (out), E16 DGND (power), E17 RDB_18 (out), E18 VDDQB (power), F10 NC, F11 NC, F12 NC, F13 NC, F14 VDDQB (power), F15 RDB_8 (out), F16 RDB_15 (out), F17 RDB_14 (out), F18 RXCLK_B (out), G10 NC, G11 NC, G12 NC, G13 NC, G14 RDB_0 (out), G15 RDB_1 (out), G16 RDB_3 (out), G17 VDDQB (power), G18 DGND (power), H10 NC, H11 NC, H12 NC, H13 SCL (io), H14 DGND (power), H15 RDB_2 (out), H16 DGND (power), H17 TDB_18 (in), H18 TDB_16 (in), J10 NC, J11 NC, J12 NC, J13 NC, J14 RESRB (in), J15 VDDQB (power), J16 TDB_17 (in), J17 TDB_19 (in), J18 TDB_5 (in)
part D pins: K10 GPI1 (in), K11 PRTAD1 (in), K12 PRTAD2 (in), K13 SDO (io), K14 DGND (power), K15 TDB_15 (in), K16 TDB_14 (in), K17 DGND (power), K18 VDDQB (power), L10 VDDO1 (power), L11 PRTAD0 (in), L12 VDDQB (power), L13 DVDD (power), L14 TDB_13 (in), L15 VDDQB (power), L16 TDB_12 (in), L17 VDDQB (power), L18 VREFTB (power), M10 DVDD (power), M11 DGND (power), M12 DVDD (power), M13 VDDQB (power), M14 TDB_11 (in), M15 TDB_9 (in), M16 TDB_10 (in), M17 TDB_4 (in), M18 RESTB (in), N10 DGND (power), N11 DGND (power), N12 DGND (power), N13 DVDD (power), N14 TDB_7 (in), N15 DGND (power), N16 TDB_6 (in), N17 DGND (power), N18 VDDQB (power), P10 DGND (power), P11 DGND (power), P12 DGND (power), P13 VDDQB (power), P14 TDB_1 (in), P15 TDB_2 (in), P16 VDDQB (power), P17 TDB_8 (in), P18 TDB_0 (in), R10 DVDD (power), R11 AGND (power), R12 DVDD (power), R13 VDDO2 (power), R14 TDO (out), R15 TDI (in), R16 PRBS_EN (in), R17 TDB_3 (in), R18 DGND (power), T10 AVDD (power), T11 VDDD (power), T12 VDDRB (power), T13 AVDD (power), T14 AGND (power), T15 CLK_OUT_SEL (in), T16 TCK (in), T17 TESTEN (in), T18 TXCLK_B (in), U10 AGND (power), U11 AVDD (power), U12 TXBP (out), U13 TXBN (out), U14 AVDD (power), U15 PD_TRXB_N (in), U16 RATE_B2 (in), U17 RATE_B1 (in), U18 RATE_B0 (in), V10 RXBP (in), V11 RXBN (in), V12 VDDT (power), V13 AGND (power), V14 AMUXB (io), V15 PRTAD4 (in), V16 CODEB_EN (in), V17 LOSB (out), V18 PRBSB_PASS (out)

## TPS51100DGQ
designator IC?
Voltage - Output: 1.2 V ~ 3.6 V; Voltage - Input: 4.75 V ~ 5.25 V; Supplier 1: Digi-Key; Package / Case: 10-TFSOP, 10-MSOP (0.118", 3.00mm Width) Exposed Pad; Operating Temperature: -40°C ~ 85°C; Category: Integrated Circuits (ICs); Supplier Part Number 1: 296-23595-6-ND
footprint TPS51100DGQ (TSSOP, 10-Leads, Body 3,00x3,00mm, Pitch 0,50mm, IPC Medium Density)
pins: 1 VDDQSNS, 2 VLDOIN, 3 VTT, 4 PGND, 5 VTTSNS, 6 VTTREF, 7 S3 (in), 8 GND, 9 S5 (in), 10 VIN, 11 GND

## TS3A5018PWR
designator IC?
Manufacturer: TEXAS INSTRUMENTS; On State Resistance Max: 10; Analog Switch Case: TSSOP; Supply Voltage Range: 2.3V to 3.6; No. of Pins: 16; Analog Switch Type: SPDT; Supplier 1: Newark; Manufacturer Part Number: TS3A5018PW; Supplier Part Number 1: 71J8329
footprint TS3A5018PWR (TSOP, 16-Leads, Body 5,00x4,40mm, Pitch 0,65mm, IPC Medium Density)
pins: 1 IN, 2 NC1, 3 NO1, 4 COM1, 5 NC2, 6 NO2, 7 COM2, 8 GND, 9 COM3, 10 NO3, 11 NC3, 12 COM4, 13 NO4, 14 NC4, 15 ~{EN}, 16 V+

## TS5A23157
designator IC?
TS3A5018; Manufacturer: Texas Instruments; Current - Supply: 1µA; Circuit: 2 x SPDT; On-State Resistance: 10 Ohm; Voltage Supply Source: Single Supply; Voltage - Supply, Single/Dual (±): 1.8 V ~ 5.5 V; Function: Switch; Supplier 1: Digi-Key; Category: Integrated Circuits (ICs); Supplier Device Package: 10-VSSOP; Package / Case: 10-TFSOP, 10-MSOP (0.118", 3.00mm Width); Mounting Type: Surface Mount; Supplier Part Number 1: 296-17076-1-ND
footprint TS5A23157 (TSSOP, 10-Leads, Body 3,00x3,00mm, Pitch 0,50mm, IPC Medium Density)
pins: 1 IN1, 2 NO1, 3 GND, 4 NO2, 5 IN2, 6 COM2, 7 NC2, 8 V+, 9 NC1, 10 COM1

## TXCO
designator XT?
Assembly Info: *
pins: 1 Vc, 2 GND, 3 OUT, 4 VDD

## USB2_A_ER
designator J?, comment USB2_A
Manufacturer Part Number: A-USB/2-A-E-R; Connector Type: USB - A; Specifications: USB 2.0; Number of Contacts: 4; Supplier 1: Digi-Key; Category: Connectors, Interconnects; Supplier Part Number 1: AE10400-ND
footprint USB2_A
pins: 1 Vbus, 2 D-, 3 D+, 4 GND, 5 Shell, 6 Shell, 7 Shell, 8 Shell

## USB3.0_MALE
designator J?
Manufacturer Part Number 1: 692112030100; Manufacturer: Wurth Electronics Inc; Specifications: USB 3.0, Super Speed; Number of Contacts: 9; Connector Type: USB - A; Gender: Plug; Packaging: Tray; Features: Board Lock, Shielded; Ingress Protection: -; Category: Connectors, Interconnects; RoHS: RoHS Compliant; Mounting Type: Surface Mount, Right Angle, Horizontal; Supplier 1: Digi-Key; Supplier Part Number 1: 732-3157-ND
footprint USB3A_SM
pins: 1 VBUS, 2   D-, 3 D+, 4 GND, 5 StdA_SSRX-, 6 StdA_SSRX+, 7 GND_DRAIN, 8 StdA_SSTX-, 9 StdA_SSTX+, 10 Shield, 11 Mechanical

## USB_Micro_TypeB
designator J?, comment USB Micro Type B
Connector SMD USB Micro Type B; Connector Type: USB - micro B; Number of Contacts: 5; Supplier 1: Digi-Key; Category: Connectors, Interconnects; Mounting Type: Surface Mount, Right Angle, Horizontal; Supplier Part Number 1: 609-4616-2-ND
footprint microUSB
pins: 1 VBUS, 2 D-, 3 D+, 4 ID, 5 GND, 6 Shell

## USBULC6-2P6
designator IC?, comment USB_ESD
Manufacturer Part Number 1: USBULC6-2P6; Manufacturer: STMicroelectronics; Current - Peak Pulse (10/1000µs): 5A (8/20µs); Capacitance @ Frequency: 1pF @ 1MHz; Bidirectional Channels: 2; Voltage - Reverse Standoff (Typ): 5V; Voltage - Breakdown (Min): 6V; Power Line Protection: Yes; Voltage - Clamping (Max) @ Ipp: 17V; Supplier 1: Digi-Key; Unidirectional Channels: -; Mounting Type: Surface Mount; Applications: Ethernet; Type: Steering (Rail to Rail); Power - Peak Pulse: -; Category: Circuit Protection; Supplier Device Package: SOT-666; Package / Case: SOT-563, SOT-666; Packaging: Cut Tape (CT); Operating Temperature: -; RoHS: RoHS Compliant; Supplier Part Number 1: 497-15162-1-ND
footprint USBULC6
pins: 1 I/O1, 2 GND, 3 I/O2, 4 I/O2, 5 VBUS, 6 I/O1

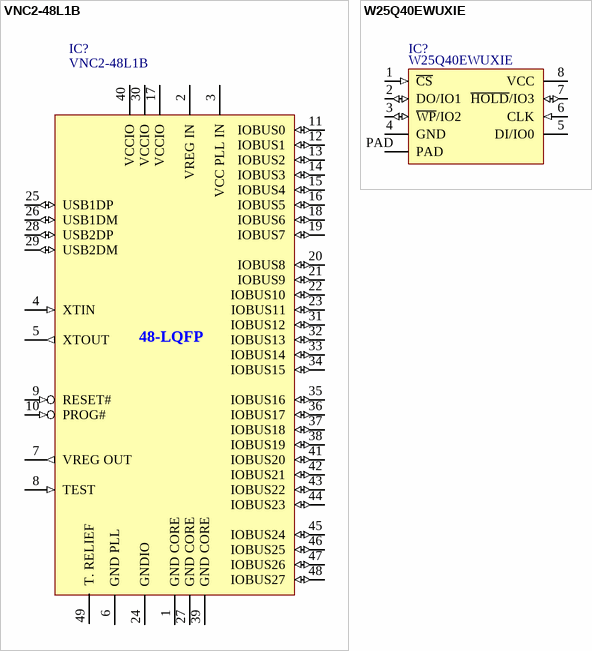
[diagram p34: symbols VNC2-48L1B to W25Q40EWUXIE]

## VNC2-48L1B
designator IC?
Manufacturer Part Number: VNC2-48L1B-REEL; Manufacturer: FTDI, Future Technology Devices International Ltd; Current - Supply: 25mA; Voltage - Supply: 1.62 V ~ 1.98 V; Interface: SPI, UART; Standards: USB 2.0; Function: Controller; Supplier 1: Digi-Key; Supplier Device Package: 48-LQFP (7x7); Category: Integrated Circuits (ICs); Supplier: Digi-Key; Supplier Part Number 1: 768-1049-2-ND
footprint VNC2-48L1B_LQFP48 (VNC2-48L1B chip with LQFP-48 package)
pins: 1 GND CORE (power), 2 VREG IN (power), 3 VCC PLL IN (power), 4 XTIN (in), 5 XTOUT (out), 6 GND PLL (power), 7 VREG OUT (out), 8 TEST (in), 9 RESET# (in), 10 PROG# (in), 11 IOBUS0 (io), 12 IOBUS1 (io), 13 IOBUS2 (io), 14 IOBUS3 (io), 15 IOBUS4 (io), 16 IOBUS5 (io), 17 VCCIO (power), 18 IOBUS6 (io), 19 IOBUS7 (io), 20 IOBUS8 (io), 21 IOBUS9 (io), 22 IOBUS10 (io), 23 IOBUS11 (io), 24 GNDIO (power), 25 USB1DP (io), 26 USB1DM (io), 27 GND CORE (power), 28 USB2DP (io), 29 USB2DM (io), 30 VCCIO (power), 31 IOBUS12 (io), 32 IOBUS13 (io), 33 IOBUS14 (io), 34 IOBUS15 (io), 35 IOBUS16 (io), 36 IOBUS17 (io), 37 IOBUS18 (io), 38 IOBUS19 (io), 39 GND CORE (power), 40 VCCIO (power), 41 IOBUS20 (io), 42 IOBUS21 (io), 43 IOBUS22 (io), 44 IOBUS23 (io), 45 IOBUS24 (io), 46 IOBUS25 (io), 47 IOBUS26 (io), 48 IOBUS27 (io), 49 T. RELIEF (power)
text: 48-LQFP

## W25Q40EWUXIE
designator IC?
Manufacturer: Winbond Electronics; Manufacturer Part Number 1: W25Q40EWUXIE TR; Part Description: FLASH - NOR Memory IC 4Mb (512K x 8) SPI 8-USON (2x3); Memory Type: Non-Volatile; Memory Format: FLASH; Memory Size: 4Mb (512K x 8); Write Cycle Time - Word, Page: 800µs; Memory Interface: SPI; Voltage - Supply: 1.65 V ~ 1.95 V; Supplier 1: Digi-Key; RoHS: RoHS Compliant; Category: Integrated Circuits (ICs); Stock 1: 4000; Pricing 1: 1=0.75 (USD); Packaging: Cut Tape (CT); Part Status: Active; Technology: FLASH - NOR; Access Time: -; Operating Temperature: -40°C ~ 85°C (TA); Mounting Type: Surface Mount; Package / Case: 8-UFDFN Exposed Pad; Supplier Device Package: 8-USON (2x3); ComponentLink1URL: https://www.winbond.com/resource-files/w25q40ew%20revf%2011252015%20sfdp.pdf; ComponentLink1Description: https://www.winbond.com/resource-files/w25q40ew%20revf%2011252015%20sfdp.pdf; Supplier Part Number 1: W25Q40EWUXIE CT-ND
footprint W25Q40EWUXIE_8-USON
pins: 1 ~{CS} (in), 2 DO/IO1 (io), 3 ~{WP}/IO2 (io), 4 GND, 5 DI/IO0, 6 CLK (in), 7 ~{HOLD}/IO3 (io), 8 VCC (power), PAD